# Altium schematic symbol library MAX7321.SchLib: 1 symbol
Pins are listed as number, name and electrical type; pins without a type are passive.

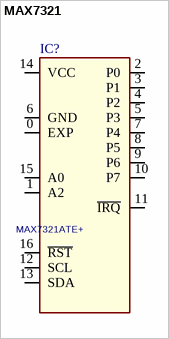
[diagram p0: symbol MAX7321]

## MAX7321
designator IC?, comment MAX7321ATE+
ID: MAX7321ATE+; PDF: http://datasheets.maximintegrated.com/en/ds/MAX7321.pdf; BUY_LINK: http://www.digikey.com/product-detail/en/MAX7321ATE%2B/MAX7321ATE%2B-ND/1513368; PRICE: 2.73000
footprint VQFN-16
pins: 0 EXP, 1 A2, 2 P0, 3 P1, 4 P2, 5 P3, 6 GND, 7 P4, 8 P5, 9 P6, 10 P7, 11 ~{IRQ}, 12 SCL, 13 SDA, 14 VCC, 15 A0, 16 ~{RST}